# Altium footprint library SamacSys.PcbLib: 24 footprints (part 1 of 2)
Each footprint in its own frame and in the unit in brackets; x right, y up, seen from the top. Pads: shape width x height; smd on the part's side, far side on the other; paste and mask are expansions set on the pad; w line width, h text height; cw(c..) or ccw(c..) is an arc to the next point about the centre after c.
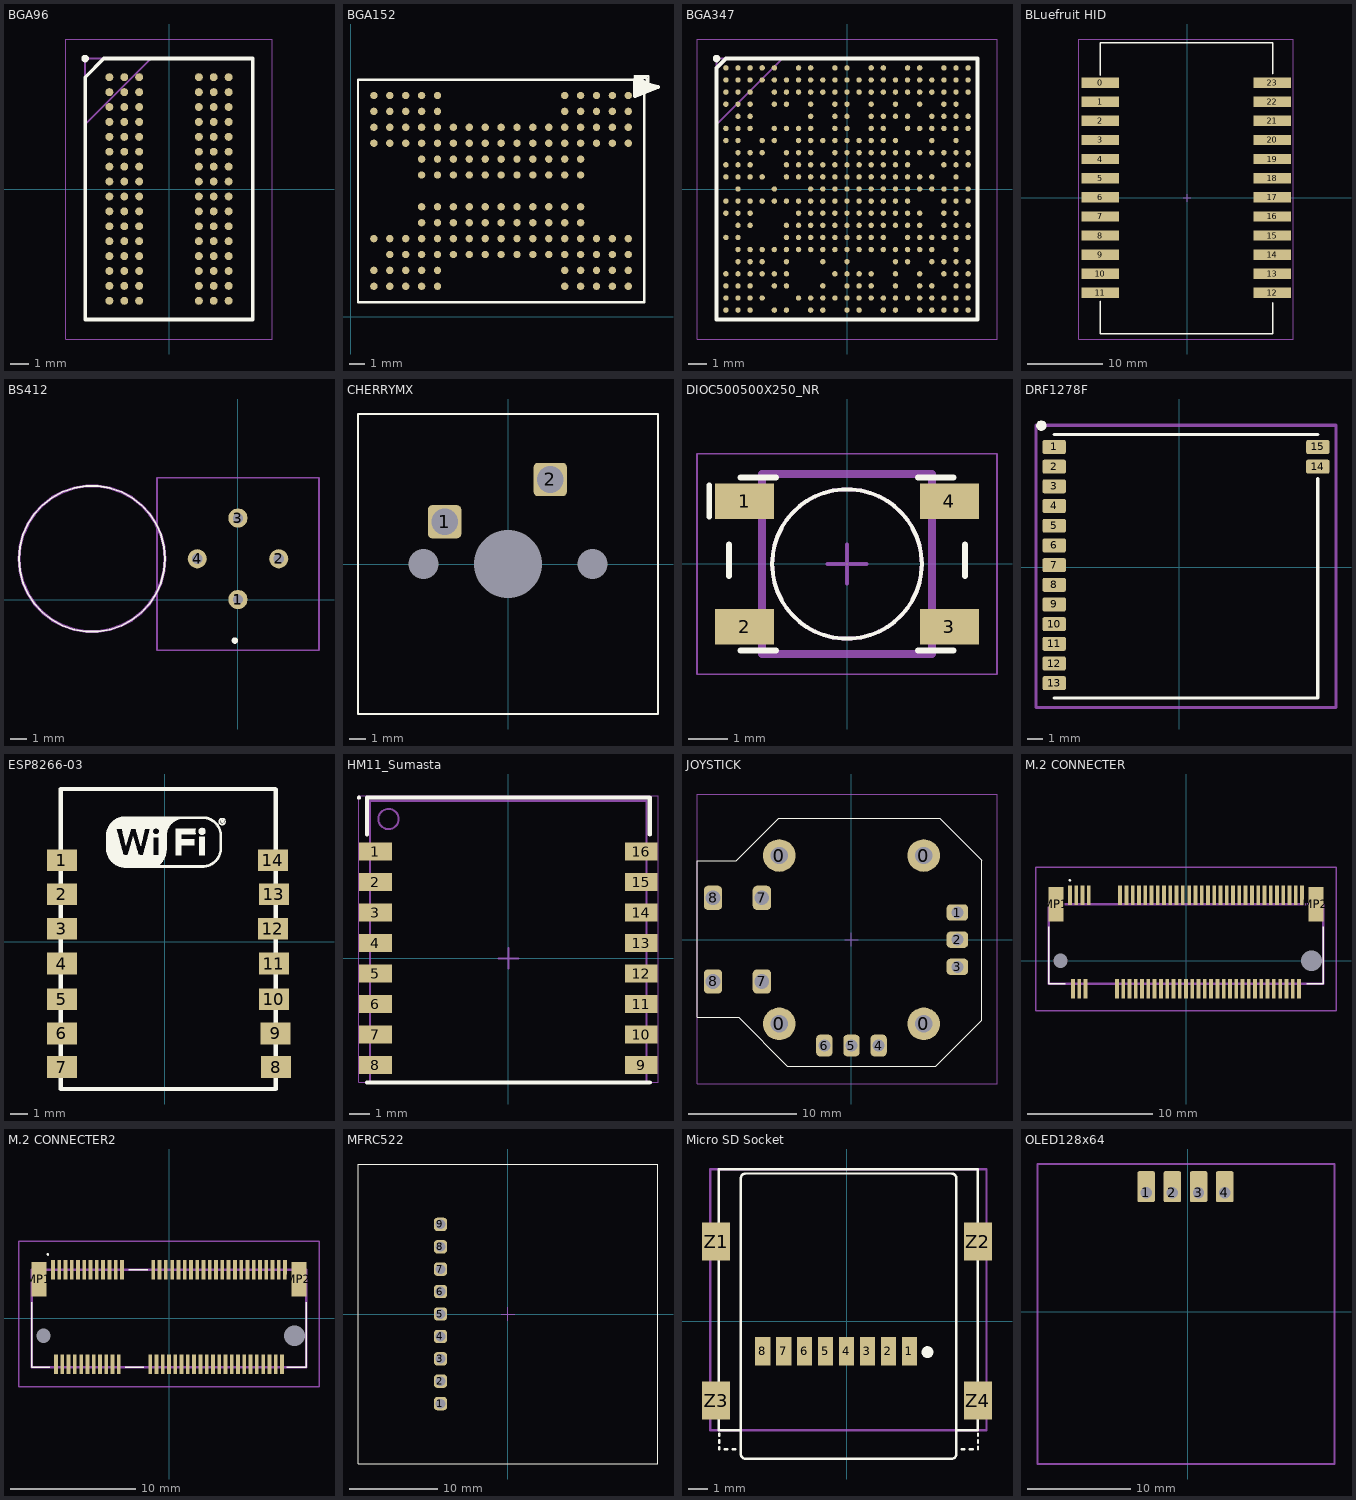
[diagram p0: the footprints below, top view; thin cyan lines are the x and y axes]

## BGA96 [mm]
pads (96):
  round 0.426 smd: A1(-3.2,6) A2(-2.4,6) A3(-1.6,6) A7(1.6,6) A8(2.4,6) A9(3.2,6) B1(-3.2,5.2) B2(-2.4,5.2) B3(-1.6,5.2) B7(1.6,5.2) B8(2.4,5.2) B9(3.2,5.2) C1(-3.2,4.4) C2(-2.4,4.4) C3(-1.6,4.4) C7(1.6,4.4) C8(2.4,4.4) C9(3.2,4.4) D1(-3.2,3.6) D2(-2.4,3.6) D3(-1.6,3.6) D7(1.6,3.6) D8(2.4,3.6) D9(3.2,3.6) E1(-3.2,2.8) E2(-2.4,2.8) E3(-1.6,2.8) E7(1.6,2.8) E8(2.4,2.8) E9(3.2,2.8) F1(-3.2,2) F2(-2.4,2) F3(-1.6,2) F7(1.6,2) F8(2.4,2) F9(3.2,2) G1(-3.2,1.2) G2(-2.4,1.2) G3(-1.6,1.2) G7(1.6,1.2) G8(2.4,1.2) G9(3.2,1.2) H1(-3.2,0.4) H2(-2.4,0.4) H3(-1.6,0.4) H7(1.6,0.4) H8(2.4,0.4) H9(3.2,0.4) J1(-3.2,-0.4) J2(-2.4,-0.4) J3(-1.6,-0.4) J7(1.6,-0.4) J8(2.4,-0.4) J9(3.2,-0.4) K1(-3.2,-1.2) K2(-2.4,-1.2) K3(-1.6,-1.2) K7(1.6,-1.2) K8(2.4,-1.2) K9(3.2,-1.2) L1(-3.2,-2) L2(-2.4,-2) L3(-1.6,-2) L7(1.6,-2) L8(2.4,-2) L9(3.2,-2) M1(-3.2,-2.8) M2(-2.4,-2.8) M3(-1.6,-2.8) M7(1.6,-2.8) M8(2.4,-2.8) M9(3.2,-2.8) N1(-3.2,-3.6) N2(-2.4,-3.6) N3(-1.6,-3.6) N7(1.6,-3.6) N8(2.4,-3.6) N9(3.2,-3.6) P1(-3.2,-4.4) P2(-2.4,-4.4) P3(-1.6,-4.4) P7(1.6,-4.4) P8(2.4,-4.4) P9(3.2,-4.4) R1(-3.2,-5.2) R2(-2.4,-5.2) R3(-1.6,-5.2) R7(1.6,-5.2) R8(2.4,-5.2) R9(3.2,-5.2) T1(-3.2,-6) T2(-2.4,-6) T3(-1.6,-6) T7(1.6,-6) T8(2.4,-6) T9(3.2,-6)
Top Overlay:
  circle w0.2: c-4.5,7 r0.1
  lines w0.2: -4.5,-7 -4.5,6 -3.5,7 4.5,7 4.5,-7 -4.5,-7
Mechanical 13:
  lines w0.1: -4.5,3.475 -0.975,7 ; -4.5,-7 -4.5,7 4.5,7 4.5,-7 -4.5,-7
Mechanical 15:
  lines w0.05: -5.55,-8.05 -5.55,8.05 5.55,8.05 5.55,-8.05 -5.55,-8.05
3D body "MT41K512M16HA-107_IT.stp": height 1.2, standoff 0, extent -4.5,-7 4.5,7

## BGA152 [mm] "NAND FLASH"
height 1.28
pads (151):
  round 0.465 smd: A1(17.461,13.927) A2(17.461,12.927) A3(17.461,11.927) A4(17.461,10.927) A10(17.461,4.927) A11(17.461,3.927) A12(17.461,2.927) A13(17.461,1.927) B1(16.461,13.927) B2(16.461,12.927) B3(16.461,11.927) B4(16.461,10.927) B10(16.461,4.927) B11(16.461,3.927) B12(16.461,2.927) B13(16.461,1.927) C1(15.461,13.927) C2(15.461,12.927) C3(15.461,11.927) C4(15.461,10.927) C10(15.461,4.927) C11(15.461,3.927) C12(15.461,2.927) C13(15.461,1.927) D1(14.461,13.927) D2(14.461,12.927) D3(14.461,11.927) D4(14.461,10.927) D5(14.461,9.927) D6(14.461,8.927) D8(14.461,6.927) D9(14.461,5.927) D10(14.461,4.927) D11(14.461,3.927) D12(14.461,2.927) D13(14.461,1.927) E1(13.461,13.927) E2(13.461,12.927) E3(13.461,11.927) E4(13.461,10.927) E5(13.461,9.927) E6(13.461,8.927) E8(13.461,6.927) E9(13.461,5.927) E10(13.461,4.927) E11(13.461,3.927) E12(13.461,2.927) E13(13.461,1.927) F3(12.461,11.927) F4(12.461,10.927) F5(12.461,9.927) F6(12.461,8.927) F8(12.461,6.927) F9(12.461,5.927) F10(12.461,4.927) F11(12.461,3.927) G3(11.461,11.927) G4(11.461,10.927) G5(11.461,9.927) G6(11.461,8.927) G8(11.461,6.927) G9(11.461,5.927) G10(11.461,4.927) G11(11.461,3.927) H3(10.461,11.927) H4(10.461,10.927) H5(10.461,9.927) H6(10.461,8.927) H8(10.461,6.927) H9(10.461,5.927) H10(10.461,4.927) H11(10.461,3.927) J3(9.461,11.927) J4(9.461,10.927) J5(9.461,9.927) J6(9.461,8.927) J8(9.461,6.927) J9(9.461,5.927) J10(9.461,4.927) J11(9.461,3.927) K3(8.461,11.927) K4(8.461,10.927) K5(8.461,9.927) K6(8.461,8.927) K8(8.461,6.927) K9(8.461,5.927) K10(8.461,4.927) K11(8.461,3.927) L3(7.461,11.927) L4(7.461,10.927) L5(7.461,9.927) L6(7.461,8.927) L8(7.461,6.927) L9(7.461,5.927) L10(7.461,4.927) L11(7.461,3.927) M3(6.461,11.927) M4(6.461,10.927) M5(6.461,9.927) M6(6.461,8.927) M8(6.461,6.927) M9(6.461,5.927) M10(6.461,4.927) M11(6.461,3.927) N1(5.461,13.927) N2(5.461,12.927) N3(5.461,11.927) N4(5.461,10.927) N5(5.461,9.927) N6(5.461,8.927) N8(5.461,6.927) N9(5.461,5.927) N10(5.461,4.927) N11(5.461,3.927) N12(5.461,2.927) N13(5.461,1.927) P1(4.461,13.927) P2(4.461,12.927) P3(4.461,11.927) P4(4.461,10.927) P5(4.461,9.927) P6(4.461,8.927) P8(4.461,6.927) P9(4.461,5.927) P10(4.461,4.927) P11(4.461,3.927) P12(4.461,2.927) P13(4.461,1.927) R1(3.461,13.927) R2(3.461,12.927) R3(3.461,11.927) R4(3.461,10.927) R10(3.461,4.927) R11(3.461,3.927) R12(3.461,2.927) R13(3.461,1.927) T1(2.461,13.927) T2(2.461,12.927) T3(2.461,11.927) T4(2.461,10.927) T10(2.461,4.927) T11(2.461,3.927) T12(2.461,2.927) T13(2.461,1.927) U1(1.461,13.927) U2(1.461,12.927) U3(1.461,11.927) U4(1.461,10.927) U10(1.461,4.927) U12(1.461,2.927) U13(1.461,1.927)
Top Overlay:
  lines w0.127: 17.843,15.039 18.605,15.039 18.605,14.404 ; 17.843,15.166 18.732,15.166 18.732,14.404
  lines w0.152: 0.461,0.927 0.461,14.927 18.336,14.927 18.461,14.802 18.461,0.927 0.461,0.927
  lines w0.254: 18.551,14.414 18.195,14.191 18.19,14.508 18.573,14.408 ; 18.679,14.436 18.096,14.097 18.09,14.58 18.695,14.43 ; 18.99,14.475 17.979,13.997 17.973,14.714 19.023,14.469 ; 19.318,14.469 17.879,13.902 17.879,14.853 19.329,14.464

## BGA347 [mm]
pads (347):
  round 0.29 smd: A1(-6.5,6.5) A2(-5.85,6.5) A3(-5.2,6.5) A4(-4.55,6.5) A5(-3.9,6.5) A7(-2.6,6.5) A8(-1.95,6.5) A10(-0.65,6.5) A11(0,6.5) A13(1.3,6.5) A14(1.95,6.5) A16(3.25,6.5) A17(3.9,6.5) A19(5.2,6.5) A20(5.85,6.5) A21(6.5,6.5) AA1(-6.5,-6.5) AA2(-5.85,-6.5) AA3(-5.2,-6.5) AA5(-3.9,-6.5) AA6(-3.25,-6.5) AA8(-1.95,-6.5) AA9(-1.3,-6.5) AA11(0,-6.5) AA12(0.65,-6.5) AA14(1.95,-6.5) AA15(2.6,-6.5) AA17(3.9,-6.5) AA18(4.55,-6.5) AA19(5.2,-6.5) AA20(5.85,-6.5) AA21(6.5,-6.5) B1(-6.5,5.85) B2(-5.85,5.85) B3(-5.2,5.85) B4(-4.55,5.85) B5(-3.9,5.85) B6(-3.25,5.85) B7(-2.6,5.85) B8(-1.95,5.85) B9(-1.3,5.85) B10(-0.65,5.85) B11(0,5.85) B12(0.65,5.85) B13(1.3,5.85) B14(1.95,5.85) B15(2.6,5.85) B16(3.25,5.85) B17(3.9,5.85) B18(4.55,5.85) B19(5.2,5.85) B20(5.85,5.85) B21(6.5,5.85) C1(-6.5,5.2) C2(-5.85,5.2) C3(-5.2,5.2) C5(-3.9,5.2) C6(-3.25,5.2) C7(-2.6,5.2) C8(-1.95,5.2) C9(-1.3,5.2) C10(-0.65,5.2) C11(0,5.2) C12(0.65,5.2) C13(1.3,5.2) C14(1.95,5.2) C15(2.6,5.2) C16(3.25,5.2) C17(3.9,5.2) C18(4.55,5.2) C19(5.2,5.2) C20(5.85,5.2) C21(6.5,5.2) D1(-6.5,4.55) D2(-5.85,4.55) D3(-5.2,4.55) D5(-3.9,4.55) D6(-3.25,4.55) D8(-1.95,4.55) D10(-0.65,4.55) D11(0,4.55) D13(1.3,4.55) D15(2.6,4.55) D17(3.9,4.55) D19(5.2,4.55) D20(5.85,4.55) E2(-5.85,3.9) E3(-5.2,3.9) E8(-1.95,3.9) E10(-0.65,3.9) E11(0,3.9) E13(1.3,3.9) E14(1.95,3.9) E15(2.6,3.9) E16(3.25,3.9) E18(4.55,3.9) E19(5.2,3.9) E20(5.85,3.9) E21(6.5,3.9) F1(-6.5,3.25) F2(-5.85,3.25) F3(-5.2,3.25) F5(-3.9,3.25) F6(-3.25,3.25) F7(-2.6,3.25) F8(-1.95,3.25) F10(-0.65,3.25) F11(0,3.25) F13(1.3,3.25) F14(1.95,3.25) F16(3.25,3.25) F17(3.9,3.25) F18(4.55,3.25) F19(5.2,3.25) F20(5.85,3.25) F21(6.5,3.25) G1(-6.5,2.6) G2(-5.85,2.6) G4(-4.55,2.6) G5(-3.9,2.6) G7(-2.6,2.6) G8(-1.95,2.6) G9(-1.3,2.6) G10(-0.65,2.6) G11(0,2.6) G12(0.65,2.6) G13(1.3,2.6) G14(1.95,2.6) G15(2.6,2.6) G18(4.55,2.6) G20(5.85,2.6) H2(-5.85,1.95) H3(-5.2,1.95) H4(-4.55,1.95) H6(-3.25,1.95) H7(-2.6,1.95) H8(-1.95,1.95) H10(-0.65,1.95) H11(0,1.95) H12(0.65,1.95) H13(1.3,1.95) H14(1.95,1.95) H15(2.6,1.95) H16(3.25,1.95) H17(3.9,1.95) H18(4.55,1.95) H19(5.2,1.95) H20(5.85,1.95) H21(6.5,1.95) J1(-6.5,1.3) J2(-5.85,1.3) J3(-5.2,1.3) J6(-3.25,1.3) J7(-2.6,1.3) J8(-1.95,1.3) J9(-1.3,1.3) J10(-0.65,1.3) J11(0,1.3) J12(0.65,1.3) J13(1.3,1.3) J14(1.95,1.3) J15(2.6,1.3) J16(3.25,1.3) J19(5.2,1.3) J20(5.85,1.3) J21(6.5,1.3) K1(-6.5,0.65) K2(-5.85,0.65) K3(-5.2,0.65) K4(-4.55,0.65) K6(-3.25,0.65) K7(-2.6,0.65) K8(-1.95,0.65) K9(-1.3,0.65) K10(-0.65,0.65) K11(0,0.65) K12(0.65,0.65) K13(1.3,0.65) K14(1.95,0.65) K15(2.6,0.65) K16(3.25,0.65) K17(3.9,0.65) K18(4.55,0.65) K20(5.85,0.65) L2(-5.85,0) L5(-3.9,0) L8(-1.95,0) L9(-1.3,0) L10(-0.65,0) L11(0,0) L12(0.65,0) L13(1.3,0) L14(1.95,0) L15(2.6,0) L16(3.25,0) L17(3.9,0) L18(4.55,0) L19(5.2,0) L20(5.85,0) L21(6.5,0) M1(-6.5,-0.65) M2(-5.85,-0.65) M3(-5.2,-0.65) M4(-4.55,-0.65) M5(-3.9,-0.65) M6(-3.25,-0.65) M7(-2.6,-0.65) M8(-1.95,-0.65) M9(-1.3,-0.65) M10(-0.65,-0.65) M11(0,-0.65) M12(0.65,-0.65) M13(1.3,-0.65) M14(1.95,-0.65) M15(2.6,-0.65) M16(3.25,-0.65) M19(5.2,-0.65) M20(5.85,-0.65) M21(6.5,-0.65) N1(-6.5,-1.3) N2(-5.85,-1.3) N3(-5.2,-1.3) N7(-2.6,-1.3) N8(-1.95,-1.3) N9(-1.3,-1.3) N10(-0.65,-1.3) N11(0,-1.3) N12(0.65,-1.3) N13(1.3,-1.3) N14(1.95,-1.3) N15(2.6,-1.3) N16(3.25,-1.3) N17(3.9,-1.3) N19(5.2,-1.3) N20(5.85,-1.3) P2(-5.85,-1.95) P3(-5.2,-1.95) P6(-3.25,-1.95) P7(-2.6,-1.95) P8(-1.95,-1.95) P9(-1.3,-1.95) P10(-0.65,-1.95) P11(0,-1.95) P12(0.65,-1.95) P13(1.3,-1.95) P14(1.95,-1.95) P15(2.6,-1.95) P16(3.25,-1.95) P17(3.9,-1.95) P19(5.2,-1.95) P20(5.85,-1.95) P21(6.5,-1.95) R1(-6.5,-2.6) R2(-5.85,-2.6) R6(-3.25,-2.6) R7(-2.6,-2.6) R8(-1.95,-2.6) R9(-1.3,-2.6) R10(-0.65,-2.6) R11(0,-2.6) R12(0.65,-2.6) R13(1.3,-2.6) R14(1.95,-2.6) R16(3.25,-2.6) R17(3.9,-2.6) R18(4.55,-2.6) R19(5.2,-2.6) R20(5.85,-2.6) R21(6.5,-2.6) T2(-5.85,-3.25) T3(-5.2,-3.25) T4(-4.55,-3.25) T5(-3.9,-3.25) T6(-3.25,-3.25) T7(-2.6,-3.25) T8(-1.95,-3.25) T9(-1.3,-3.25) T10(-0.65,-3.25) T11(0,-3.25) T12(0.65,-3.25) T13(1.3,-3.25) T14(1.95,-3.25) T15(2.6,-3.25) T16(3.25,-3.25) T17(3.9,-3.25) T18(4.55,-3.25) T20(5.85,-3.25) U2(-5.85,-3.9) U3(-5.2,-3.9) U4(-4.55,-3.9) U6(-3.25,-3.9) U9(-1.3,-3.9) U11(0,-3.9) U15(2.6,-3.9) U16(3.25,-3.9) U18(4.55,-3.9) U19(5.2,-3.9) U20(5.85,-3.9) U21(6.5,-3.9) V1(-6.5,-4.55) V2(-5.85,-4.55) V3(-5.2,-4.55) V4(-4.55,-4.55) V5(-3.9,-4.55) V6(-3.25,-4.55) V10(-0.65,-4.55) V11(0,-4.55) V12(0.65,-4.55) V13(1.3,-4.55) V15(2.6,-4.55) V17(3.9,-4.55) V19(5.2,-4.55) V20(5.85,-4.55) V21(6.5,-4.55) W1(-6.5,-5.2) W2(-5.85,-5.2) W3(-5.2,-5.2) W5(-3.9,-5.2) W6(-3.25,-5.2) W9(-1.3,-5.2) W11(0,-5.2) W12(0.65,-5.2) W13(1.3,-5.2) W15(2.6,-5.2) W17(3.9,-5.2) W18(4.55,-5.2) W20(5.85,-5.2) W21(6.5,-5.2) Y1(-6.5,-5.85) Y2(-5.85,-5.85) Y3(-5.2,-5.85) Y4(-4.55,-5.85) Y7(-2.6,-5.85) Y8(-1.95,-5.85) Y9(-1.3,-5.85) Y10(-0.65,-5.85) Y11(0,-5.85) Y12(0.65,-5.85) Y13(1.3,-5.85) Y14(1.95,-5.85) Y15(2.6,-5.85) Y16(3.25,-5.85) Y17(3.9,-5.85) Y18(4.55,-5.85) Y19(5.2,-5.85) Y20(5.85,-5.85) Y21(6.5,-5.85)
Top Overlay:
  circle w0.2: c-7,7 r0.1
  lines w0.2: -7,-7 -7,6.5 -6.5,7 7,7 7,-7 -7,-7
Mechanical 13:
  lines w0.1: -7,3.475 -3.475,7 ; -7,-7 -7,7 7,7 7,-7 -7,-7
Mechanical 15:
  lines w0.05: -8.05,-8.05 -8.05,8.05 8.05,8.05 8.05,-8.05 -8.05,-8.05
3D body "Allwinner_H3.stp": height 1.18, standoff 0, extent -7,-7 7,7

## BLuefruit HID [mm]
height 1.5
pads (24):
  rect 5x1.37 smd: 0(-11.575,15.325) 1(-11.575,12.785) 2(-11.575,10.245) 3(-11.575,7.705) 4(-11.575,5.165) 5(-11.575,2.625) 6(-11.575,0.085) 7(-11.575,-2.455) 8(-11.575,-4.995) 9(-11.575,-7.535) 10(-11.575,-10.075) 11(-11.575,-12.615) 12(11.325,-12.615) 13(11.325,-10.075) 14(11.325,-7.535) 15(11.325,-4.995) 16(11.325,-2.455) 17(11.325,0.085) 18(11.325,2.625) 19(11.325,5.165) 20(11.325,7.705) 21(11.325,10.245) 22(11.325,12.785) 23(11.325,15.325)
Top Overlay:
  lines w0.2: -11.575,-13.755 -11.575,-18.055 11.35,-18.055 11.35,-13.955 ; -11.575,16.3 -11.575,20.6 11.35,20.6 11.35,16.5
Mechanical 15:
  lines w0.1: -0.5,0 0,0 ; 0,-0.5 0,0 ; 0,0.5 0,0 ; 0.5,0 0,0 ; -14.4,-18.75 -14.4,2.75 -14.4,21.125 14.075,21.125 14.075,12.475 14.075,-18.75 -14.4,-18.75
3D body: height 2.7, standoff 0.25, extent -11.5,-17.975 11.25,20.625

## BS412 [mm]
pads (4):
  round 1.192 hole 0.65: 1(0,0) 2(2.54,2.54) 3(0,5.08) 4(-2.54,2.54)
Top Overlay:
  lines w0.1: -13.65,2.54 cw(c-9.1,2.54) -4.55,2.54 cw(c-9.1,2.54) -13.65,2.54
  lines w0.2: -0.3,-2.56 cw(c-0.2,-2.56) -0.1,-2.56 cw(c-0.2,-2.56) -0.3,-2.56
Mechanical 13:
  lines w0.2: -13.65,2.54 cw(c-9.1,2.54) -4.55,2.54 cw(c-9.1,2.54) -13.65,2.54
Mechanical 15:
  lines w0.1: -5.05,-3.16 5.05,-3.16 5.05,7.59 -5.05,7.59 -5.05,-3.16
3D body "BS412.stp": height 4.3, standoff -5, extent -4.55,-2.01 4.55,7.09

## CHERRYMX [mm]
pads (5):
  rrect25% 0x0 hole 1.8: 0(-5.08,0) 0(5.08,0)
  rrect25% 0x0 hole 4.1: 0(0,0)
  rrect25% 2x2 hole 1.6: 1(-3.81,2.54) 2(2.54,5.08)
Top Overlay:
  lines w0.15: -9.017,-9.017 -9.017,9.017 9.017,9.017 9.017,-9.017 -9.017,-9.017
3D body "cherry mx.STEP": height 14.8, standoff -3.05, extent -7.82,-8.165 7.82,8.165
3D body "MX ?????.STEP": height 23.25, standoff 12, extent -9,-8.983 9,9.017

## DIOC500500X250_NR [mm] "WS2812B PLCC 4, Body 5.0x5.0x.2.5mm, IPC Medium Density"
height 1.5
pads (4):
  rect 1.5x0.9 smd: 1(-2.6,1.59) 2(-2.6,-1.59) 3(2.6,-1.59) 4(2.6,1.59)
Top Overlay:
  circle w0.1: c0,0 r1.9
  lines w0.15: -3.5,1.2 -3.5,2 ; -3,-0.3 -3,0.5 ; -2.7,-2.2 -1.8,-2.2 ; -2.7,2.2 -1.8,2.2 ; 1.8,-2.2 2.7,-2.2 ; 1.8,2.2 2.7,2.2 ; 3,-0.3 3,0.5
Mechanical 13:
  circle w0.1: c0,0 r1.9
  lines w0.1: -2.159,-2.286 2.159,-2.286 2.159,2.286 -2.159,2.286 -2.159,-2.286
Mechanical 15:
  lines w0.05: -3.81,-2.8 3.81,-2.8 3.81,2.8 -3.81,2.8 -3.81,-2.8
  lines w0.1: -0.5,0 0.5,0 ; 0,-0.5 0,0.5
  lines w0.2: -2.159,-2.286 2.159,-2.286 2.159,2.286 -2.159,2.286 -2.159,-2.286
3D body "WS2812_RGB_LED_updated.stp": height 1.7, standoff 0, extent -2.675,-2.475 2.675,2.475

## DRF1278F [mm]
height 1.5
pads (15):
  rrect25% 1.5x0.9 smd: 1(-8.075,7.75) 2(-8.075,6.48) 3(-8.075,5.21) 4(-8.075,3.95) 5(-8.075,2.67) 6(-8.075,1.4) 7(-8.075,0.13) 8(-8.075,-1.14) 9(-8.075,-2.405) 10(-8.075,-3.675) 11(-8.075,-4.945) 12(-8.075,-6.215) 13(-8.075,-7.485) 14(8.925,6.48) 15(8.925,7.75)
Top Overlay:
  region: -8.905,8.805 -8.97,8.805 -9.09,8.854 -9.182,8.946 -9.231,9.066 -9.231,9.13 -9.231,9.195 -9.182,9.315 -9.09,9.407 -8.97,9.456 -8.905,9.456 -8.841,9.456 -8.721,9.407 -8.629,9.315 -8.58,9.195 -8.58,9.13 -8.58,9.066 -8.629,8.946 -8.721,8.854 -8.841,8.805
  lines w0.2: -8.075,-8.45 8.925,-8.45 8.925,5.7 ; -8.075,8.55 8.925,8.55
Mechanical 15:
  lines w0.2: -9.25,-9.05 -9.25,9.15 10.1,9.15 10.1,-9.05 -9.25,-9.05
3D body: height 1.6, standoff 0.1, extent -8.05,-8.45 8.925,8.55

## ESP8266-03 [mm]
height 1.5
pads (14):
  rect 1.75x1.27 smd: 1(-6.001,4.784) 2(-6.001,2.784) 3(-6.001,0.771) 4(-6.001,-1.261) 5(-6.001,-3.344) 6(-6.001,-5.351) 7(-6.001,-7.318) 8(6.521,-7.318) 9(6.496,-5.351) 10(6.394,-3.344) 11(6.394,-1.261) 12(6.344,0.771) 13(6.394,2.784) 14(6.344,4.784)
Top Overlay:
  drawing of 1265 lines, arcs and shapes, not listed
  text ".Designator" at -6.102,-9.694 h1
3D body "User Library-ESP-03.STEP": height 3.41, standoff -0.03, extent -5.975,-8.45 6.325,8.85

## HM11_Sumasta [mm] "The infamous Bluetooth low Energy 4.0 from China"
height 1.5
pads (16):
  rect 1.6x0.9 smd: 1(-6.54,5.25) 2(-6.54,3.75) 3(-6.54,2.25) 4(-6.54,0.75) 5(-6.54,-0.75) 6(-6.54,-2.25) 7(-6.54,-3.75) 8(-6.54,-5.25) 9(6.54,-5.25) 10(6.54,-3.75) 11(6.54,-2.25) 12(6.54,-0.75) 13(6.54,0.75) 14(6.54,2.25) 15(6.54,3.75) 16(6.54,5.25)
Top Overlay:
  circle w0.1: c-7.35,7.9 r0.05
  lines w0.2: -6.95,-6.1 6.95,-6.1 ; -6.95,6.1 -6.95,7.9 6.95,7.9 6.95,6.1
Mechanical 13:
  circle w0.1: c-5.9,6.85 r0.5
  lines w0.1: -6.8,-6.096 6.8,-6.096 6.8,7.75 -6.8,7.75 -6.8,-6.096
Mechanical 15:
  lines w0.05: -7.355,-6.096 7.355,-6.096 7.355,8 -7.355,8 -7.355,-6.096
  lines w0.1: -0.5,0 0.5,0 ; 0,-0.5 0,0.5
3D body "HM11.stp": height 1.7, standoff -0.1, extent -6.764,-6.171 6.736,12.329

## JOYSTICK [mm]
pads (14):
  round 3 hole 1.6: 0(-6.65,-7.75) 0(-6.65,7.75) 0(6.65,-7.75) 0(6.65,7.75)
  rrect50% 2x1.5 hole 1.1: 1(9.75,2.5) 2(9.75,0) 3(9.75,-2.5)
  rrect50% 1.5x2 hole 1.1: 4(2.5,-9.75) 5(0,-9.75) 6(-2.5,-9.75)
  rrect50% 1.7x2.25 hole 1.35: 7(-8.25,-3.85) 7(-8.25,3.85) 8(-12.75,-3.85) 8(-12.75,3.85)
Top Overlay:
  lines w0.1: -14.225,-7.15 -10.4,-7.15 -5.9,-11.65 0,-11.65 7.75,-11.65 11.975,-7.425 11.975,7.325 8.125,11.175 -6.675,11.175 -10.6,7.25 -14.225,7.25 -14.225,-7.15
Mechanical 15:
  lines w0.1: -0.625,0 0,0 ; 0,-0.625 0,0 ; 0,0.625 0,0 ; 0.625,0 0,0 ; -14.225,-13.275 13.4,-13.275 13.4,13.4 -14.225,13.4 -14.225,-13.275
3D body "9032.STEP": height 30.23, standoff -4.44, extent -14.224,-13.271 13.399,13.399

## M.2 CONNECTER [mm]
pads (71):
  rect 0.3x1.55 smd: 1(-9.25,5.225) 2(-9,-2.225) 3(-8.75,5.225) 4(-8.5,-2.225) 5(-8.25,5.225) 6(-8,-2.225) 7(-7.75,5.225) 16(-5.5,-2.225) 17(-5.25,5.225) 18(-5,-2.225) 19(-4.75,5.225) 20(-4.5,-2.225) 21(-4.25,5.225) 22(-4,-2.225) 23(-3.75,5.225) 24(-3.5,-2.225) 25(-3.25,5.225) 26(-3,-2.225) 27(-2.75,5.225) 28(-2.5,-2.225) 29(-2.25,5.225) 30(-2,-2.225) 31(-1.75,5.225) 32(-1.5,-2.225) 33(-1.25,5.225) 34(-1,-2.225) 35(-0.75,5.225) 36(-0.5,-2.225) 37(-0.25,5.225) 38(0,-2.225) 39(0.25,5.225) 40(0.5,-2.225) 41(0.75,5.225) 42(1,-2.225) 43(1.25,5.225) 44(1.5,-2.225) 45(1.75,5.225) 46(2,-2.225) 47(2.25,5.225) 48(2.5,-2.225) 49(2.75,5.225) 50(3,-2.225) 51(3.25,5.225) 52(3.5,-2.225) 53(3.75,5.225) 54(4,-2.225) 55(4.25,5.225) 56(4.5,-2.225) 57(4.75,5.225) 58(5,-2.225) 59(5.25,5.225) 60(5.5,-2.225) 61(5.75,5.225) 62(6,-2.225) 63(6.25,5.225) 64(6.5,-2.225) 65(6.75,5.225) 66(7,-2.225) 67(7.25,5.225) 68(7.5,-2.225) 69(7.75,5.225) 70(8,-2.225) 71(8.25,5.225) 72(8.5,-2.225) 73(8.75,5.225) 74(9,-2.225) 75(9.25,5.225)
  round 0.575 hole 1.15 unplated: MH1(-10,0)
  round 0.825 hole 1.65 unplated: MH2(10,0)
  rect 1.2x2.75 smd: MP1(-10.35,4.5) MP2(10.35,4.5)
Top Overlay:
  lines w0.1: -10.95,2.7 -10.95,-1.83 -9.6,-1.83 ; 9.6,-1.83 10.95,-1.83 10.95,2.7 ; -9.3,6.4 cw(c-9.25,6.4) -9.2,6.4 cw(c-9.25,6.4) -9.3,6.4
Mechanical 13:
  lines w0.2: -10.95,-1.83 10.95,-1.83 10.95,4.5 -10.95,4.5 -10.95,-1.83
Mechanical 15:
  lines w0.1: -11.95,-4 11.95,-4 11.95,7.45 -11.95,7.45 -11.95,-4
3D body "10128786-001RLF.stp": height 3.3, standoff -1.7, extent -10.95,-2.97 10.95,5.97

## M.2 CONNECTER2 [mm]
pads (71):
  rect 0.3x1.55 smd: 1(-9.25,3.888) 2(-9,-3.662) 3(-8.75,3.888) 4(-8.5,-3.662) 5(-8.25,3.888) 6(-8,-3.662) 7(-7.75,3.888) 8(-7.5,-3.662) 9(-7.25,3.888) 10(-7,-3.662) 11(-6.75,3.888) 12(-6.5,-3.662) 13(-6.25,3.888) 14(-6,-3.662) 15(-5.75,3.888) 16(-5.5,-3.662) 17(-5.25,3.888) 18(-5,-3.662) 19(-4.75,3.888) 20(-4.5,-3.662) 21(-4.25,3.888) 22(-4,-3.662) 23(-3.75,3.888) 32(-1.5,-3.662) 33(-1.25,3.888) 34(-1,-3.662) 35(-0.75,3.888) 36(-0.5,-3.662) 37(-0.25,3.888) 38(0,-3.662) 39(0.25,3.888) 40(0.5,-3.662) 41(0.75,3.888) 42(1,-3.662) 43(1.25,3.888) 44(1.5,-3.662) 45(1.75,3.888) 46(2,-3.662) 47(2.25,3.888) 48(2.5,-3.662) 49(2.75,3.888) 50(3,-3.662) 51(3.25,3.888) 52(3.5,-3.662) 53(3.75,3.888) 54(4,-3.662) 55(4.25,3.888) 56(4.5,-3.662) 57(4.75,3.888) 58(5,-3.662) 59(5.25,3.888) 60(5.5,-3.662) 61(5.75,3.888) 62(6,-3.662) 63(6.25,3.888) 64(6.5,-3.662) 65(6.75,3.888) 66(7,-3.662) 67(7.25,3.888) 68(7.5,-3.662) 69(7.75,3.888) 70(8,-3.662) 71(8.25,3.888) 72(8.5,-3.662) 73(8.75,3.888) 74(9,-3.662) 75(9.25,3.888)
  round 0.575 hole 1.15 unplated: MH1(-10,-1.387)
  round 0.825 hole 1.65 unplated: MH2(10,-1.387)
  rect 1.2x2.75 smd: MP1(-10.35,3.112) MP2(10.35,3.112)
Top Overlay:
  lines w0.1: -10.95,1.312 -10.95,-3.888 -9.5,-3.888 ; -3.5,-3.888 -2,-3.888 ; -3.2,3.888 -1.7,3.888 ; 9.4,-3.888 10.95,-3.888 10.95,1.312 ; -9.7,5.1 ccw(c-9.65,5.1) -9.6,5.1 ccw(c-9.65,5.1) -9.7,5.1
Mechanical 13:
  lines w0.2: -10.95,-3.888 -10.95,3.862 10.95,3.862 10.95,-3.888 -10.95,-3.888
Mechanical 15:
  lines w0.1: -11.95,-5.438 -11.95,6.15 11.95,6.15 11.95,-5.438 -11.95,-5.438
3D body "2199119-4.stp": height 3.3, standoff -1.7, extent -10.95,-4.407 10.95,4.633

## MFRC522 [mm]
pads (9):
  rrect50% 1.5x1.5 hole 1.1: 1(-7.65,-10.16) 2(-7.65,-7.62) 3(-7.65,-5.08) 4(-7.65,-2.54) 5(-7.65,0) 6(-7.65,2.54) 7(-7.65,5.08) 8(-7.65,7.62) 9(-7.65,10.16)
Top Overlay:
  lines w0.1: -17,-17 17,-17 17,17 -17,17 -17,-17
Mechanical 15:
  lines w0.1: -0.75,0 0,0 ; 0,-0.75 0,0 ; 0,0.75 0,0 ; 0.75,0 0,0
3D body: height 2.7, standoff 2, extent -17,-17 17,17

## Micro SD Socket [mm] "Molex50091-0801"
height 1.5
pads (12):
  rect 0.8x1.5 smd: 1(3.275,-1.575) 2(2.175,-1.575) 3(1.075,-1.575) 4(-0.025,-1.575) 5(-1.125,-1.575) 6(-2.225,-1.575) 7(-3.325,-1.575) 8(-4.425,-1.575)
  rect 1.45x2 smd: Z1(-6.875,4.175) Z2(6.875,4.175) Z3(-6.875,-4.175) Z4(6.875,-4.175)
Top Overlay:
  circle w0.32: c4.225,-1.625 r0.15
  lines w0.127: -6.704,-6.727 -6.704,-6.606 ; -6.704,-6.377 -6.704,-6.256 ; -6.704,-6.025 -6.704,-5.915 ; -6.42,-6.728 -6.279,-6.728 ; -5.997,-6.728 -5.855,-6.728 ; -5.575,-5.725 -6.725,-5.725 -6.725,7.975 6.875,7.975 6.875,-5.724 ; 5.495,-7.225 ccw(c5.495,-6.975) 5.745,-6.975 5.745,-6.725 5.745,7.5 ccw(c5.495,7.5) 5.495,7.75 ; 5.5,-7.225 -5.325,-7.225 cw(c-5.325,-6.975) -5.575,-6.975 -5.575,-6.725 -5.575,7.5 cw(c-5.325,7.5) -5.325,7.75 5.5,7.75 ; 5.747,-5.725 6.876,-5.725 ; 6.027,-6.725 6.169,-6.725 ; 6.451,-6.725 6.592,-6.725 ; 6.876,-6.724 6.876,-6.603 ; 6.876,-6.374 6.876,-6.253 ; 6.876,-6.022 6.876,-5.912
Mechanical 13:
  lines w0.127: -7.175,-5.725 7.325,-5.725 7.325,7.975 -7.175,7.975 -7.175,-5.725
3D body "693072010801.stp": height 1.78, standoff 0.01, extent -7.175,-5.725 7.325,7.975

## OLED128x64 [mm]
height 1.5
pads (4):
  rrect20% 1.7x3 hole 1.1 copper offset 0,0.6: 1(-4.015,11.525) 2(-1.475,11.525) 3(1.065,11.525) 4(3.605,11.525)
Mechanical 15:
  lines w0.2: -14.525,-14.725 -14.525,14.325 -13.95,14.325 14.225,14.325 14.225,-14.725 -14.525,-14.725
3D body "OLED_27x27_r2.STEP": height 9, standoff 0, extent -13.85,-14.075 13.45,13.225